# Altium footprint library Capacitor.PcbLib: 8 footprints
Each footprint in its own frame and in the unit in brackets; x right, y up, seen from the top. Pads: shape width x height; smd on the part's side, far side on the other; paste and mask are expansions set on the pad; w line width, h text height; cw(c..) or ccw(c..) is an arc to the next point about the centre after c.
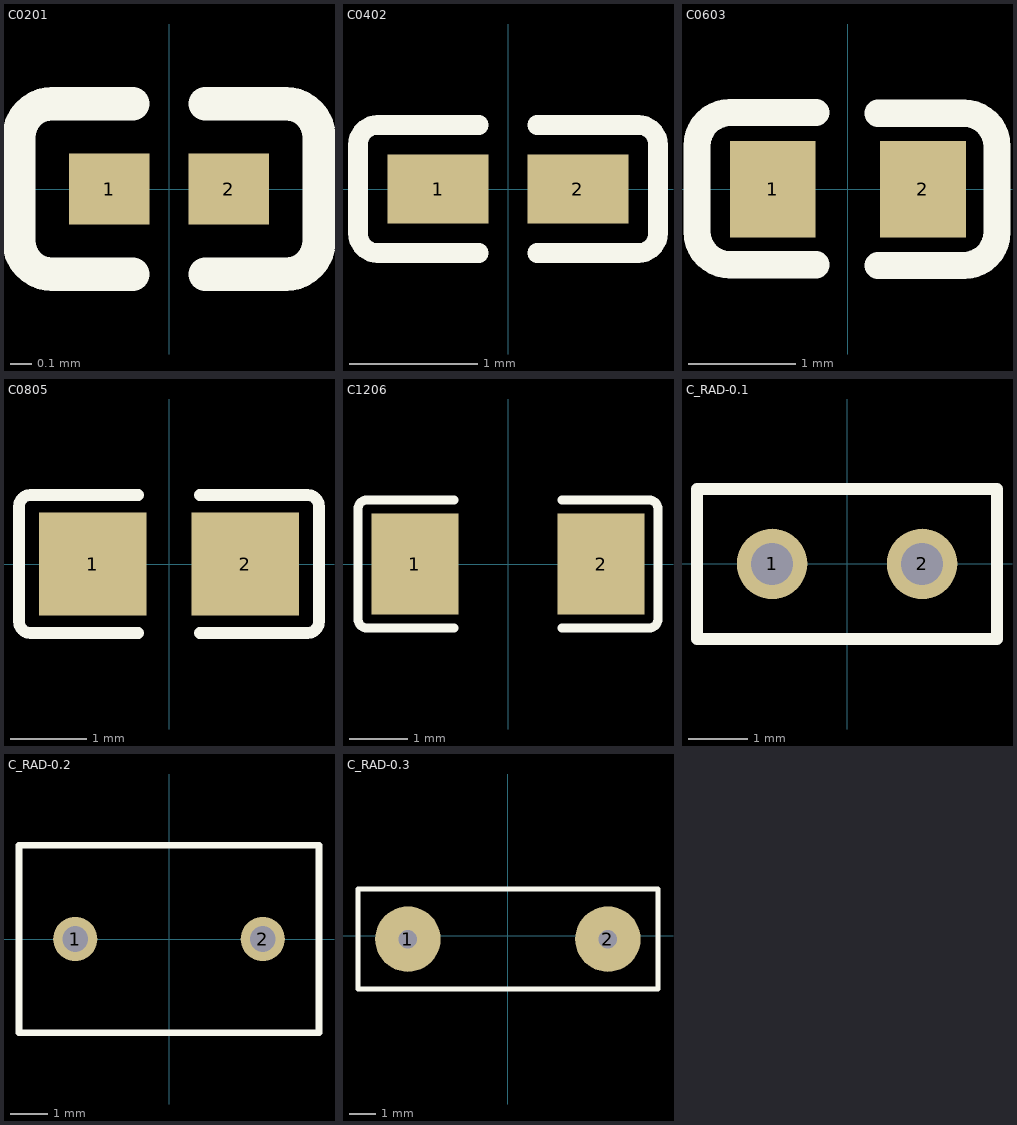
[diagram p0: the footprints below, top view; thin cyan lines are the x and y axes]

## C0201 [mil] "贴片电容"
pads (2):
  rect 14.51x12.76 smd paste-3937.01 mask+2: 1(-10.8,0) 2(10.8,0)
Top Overlay:
  lines w6: -6.54,-15.38 -21.05,-15.38 cw(c-21.05,-9.38) -27.05,-9.38 -27.05,9.38 cw(c-21.05,9.38) -21.05,15.38 -6.54,15.38 ; 6.54,-15.38 21.05,-15.38 ccw(c21.05,-9.38) 27.05,-9.38 27.05,9.38 ccw(c21.05,9.38) 21.05,15.38 6.54,15.38
Top Paste:
  region: 3.19,-5.43 3.19,5.43 4.13,6.38 17.1,6.38 18.05,5.43 18.05,-5.43 17.1,-6.38 4.13,-6.38
  region: -3.19,-5.43 -3.19,5.43 -4.13,6.38 -17.1,6.38 -18.05,5.43 -18.05,-5.43 -17.1,-6.38 -4.13,-6.38

## C0402 [mm] "贴片电容"
pads (2):
  rect 0.79x0.54 smd paste-100 mask+0.051: 1(-0.545,0) 2(0.545,0)
Top Overlay:
  lines w0.152: -0.226,-0.499 -1.016,-0.499 cw(c-1.016,-0.346) -1.169,-0.346 -1.169,0.346 cw(c-1.016,0.346) -1.016,0.499 -0.226,0.499 ; 0.226,-0.499 1.016,-0.499 ccw(c1.016,-0.346) 1.169,-0.346 1.169,0.346 ccw(c1.016,0.346) 1.016,0.499 0.226,0.499
Top Paste:
  region: -0.18,0.225 -0.18,-0.225 -0.25,-0.275 -0.73,-0.275 -0.78,-0.225 -0.78,0.225 -0.73,0.275 -0.25,0.275
  region: 0.78,0.225 0.78,-0.225 0.73,-0.275 0.25,-0.275 0.18,-0.225 0.18,0.225 0.25,0.275 0.73,0.275

## C0603 [mm] "贴片电容"
pads (2):
  rect 0.8x0.9 smd paste+0 mask+0.051: 1(-0.7,0) 2(0.7,0)
Top Overlay:
  lines w0.254: -0.296,-0.704 -1.096,-0.704 cw(c-1.096,-0.394) -1.406,-0.394 -1.405,0.406 cw(c-1.096,0.406) -1.096,0.715 -0.296,0.715 ; 0.28,-0.71 1.08,-0.71 ccw(c1.08,-0.4) 1.39,-0.4 1.39,0.4 ccw(c1.08,0.4) 1.08,0.71 0.28,0.71

## C0805 [mm] "贴片电容"
pads (2):
  rect 1.41x1.35 smd paste-100 mask+0.051: 1(-1,0) 2(1,0)
Top Overlay:
  lines w0.152: -0.401,-0.904 -1.811,-0.904 cw(c-1.811,-0.751) -1.964,-0.751 -1.964,0.751 cw(c-1.811,0.751) -1.811,0.904 -0.401,0.904 ; 0.401,-0.904 1.811,-0.904 ccw(c1.811,-0.751) 1.964,-0.751 1.964,0.751 ccw(c1.811,0.751) 1.811,0.904 0.401,0.904
Top Paste:
  region: 0.475,-0.62 0.475,-0.2 0.92,-0.2 0.92,0.25 0.48,0.25 0.475,0.66 0.525,0.71 1.675,0.71 1.725,0.66 1.725,-0.62 1.675,-0.67 0.525,-0.67
  region: -1.675,-0.62 -1.675,0.66 -1.625,0.71 -0.475,0.71 -0.425,0.66 -0.42,0.25 -0.87,0.25 -0.87,-0.2 -0.43,-0.2 -0.425,-0.62 -0.475,-0.67 -1.625,-0.67

## C1206 [mm] "贴片电容"
pads (2):
  rect 1.485x1.728 smd paste-100 mask+0.051: 1(-1.593,0) 2(1.593,0)
Top Overlay:
  lines w0.152: -0.926,-1.093 -2.411,-1.093 cw(c-2.411,-0.94) -2.564,-0.94 -2.564,0.94 cw(c-2.411,0.94) -2.411,1.093 -0.926,1.093 ; 0.926,-1.093 2.411,-1.093 ccw(c2.411,-0.94) 2.564,-0.94 2.564,0.94 ccw(c2.411,0.94) 2.411,1.093 0.926,1.093
Top Paste:
  region: 0.85,-0.764 0.85,-0.394 0.95,-0.294 1.255,-0.294 1.355,-0.194 1.355,0.194 1.255,0.294 0.95,0.294 0.85,0.394 0.85,0.764 0.95,0.864 2.235,0.864 2.335,0.764 2.335,-0.764 2.235,-0.864 0.95,-0.864
  region: -0.85,-0.764 -0.85,-0.394 -0.95,-0.294 -1.255,-0.294 -1.355,-0.194 -1.355,0.194 -1.255,0.294 -0.95,0.294 -0.85,0.394 -0.85,0.764 -0.95,0.864 -2.235,0.864 -2.335,0.764 -2.335,-0.764 -2.235,-0.864 -0.95,-0.864

## C_RAD-0.1 [mil] "直插电容"
pads (2):
  round 47 hole 28 paste-99999 mask+2: 1(-50,0) 2(50,0)
Top Overlay:
  lines w7.9: -100.1,-50.1 99.9,-50.1 99.9,49.9 -100.1,49.9 -100.1,-50.1

## C_RAD-0.2 [mm] "直插电容"
pads (2):
  round 1.2 hole 0.7 paste-2539.97 mask+0.05: 1(-2.54,0) 2(2.54,0)
Top Overlay:
  lines w0.178: -4.064,-2.54 4.064,-2.54 4.064,2.54 -4.064,2.54 -4.064,0 -4.064,-2.54

## C_RAD-0.3 [mil] "直插电容"
pads (2):
  round 98 hole 28 paste-99999 mask+2: 1(-150,-5) 2(150,-5)
Top Overlay:
  lines w7.9: -224.8,-79.8 225.2,-79.8 225.2,70.2 -224.8,70.2 -224.8,-79.8